# Altium footprint library LCD1602.PcbLib: 1 footprints
Each footprint in its own frame and in the unit in brackets; x right, y up, seen from the top. Pads: shape width x height; smd on the part's side, far side on the other; paste and mask are expansions set on the pad; w line width, h text height; cw(c..) or ccw(c..) is an arc to the next point about the centre after c.
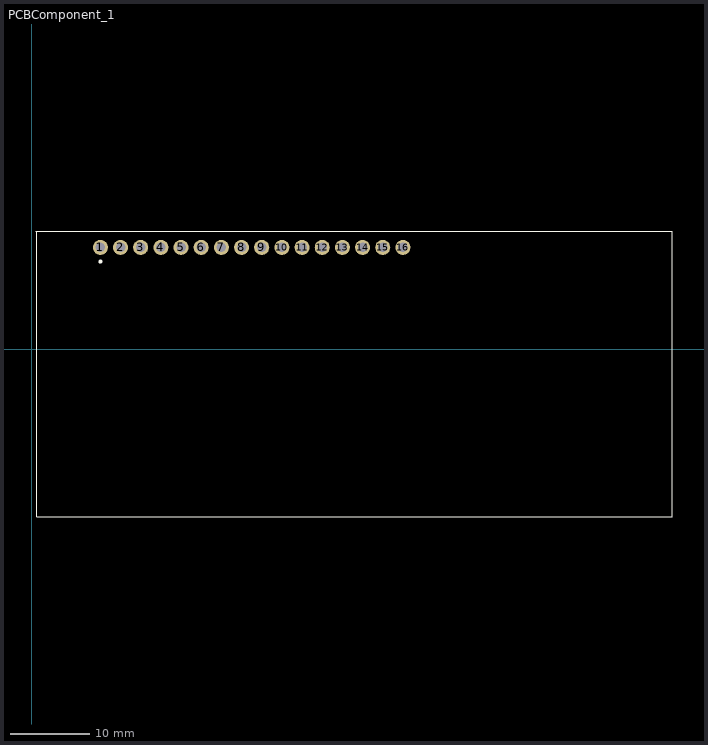
[diagram p0: the footprint, top view; thin cyan lines are the x and y axes]

## PCBComponent_1 [mm]
pads (16):
  round 1.9 hole 1.2 mask+0.076: 1(8.636,12.827) 2(11.176,12.827) 3(13.716,12.827) 4(16.256,12.827) 5(18.796,12.827) 6(21.336,12.827) 7(23.876,12.827) 8(26.416,12.827) 9(28.956,12.827) 10(31.496,12.827) 11(34.036,12.827) 12(36.576,12.827) 13(39.116,12.827) 14(41.656,12.827) 15(44.196,12.827) 16(46.736,12.827)
Top Overlay:
  circle w0.254: c8.636,11.049 r0.127
  lines w0.005: 0.508,14.859 0.635,14.859 ; 0.635,14.859 0.635,-21.082 80.645,-21.082 80.645,14.859 0.635,14.859
3D body "User Library-LCD1602.sldprt": height 11.05, standoff -1, extent 0.707,-21.125 80.707,14.875